# Altium footprint library env_sens_pcb.PcbLib: 24 footprints (part 1 of 2)
Each footprint in its own frame and in the unit in brackets; x right, y up, seen from the top. Pads: shape width x height; smd on the part's side, far side on the other; paste and mask are expansions set on the pad; w line width, h text height; cw(c..) or ccw(c..) is an arc to the next point about the centre after c.
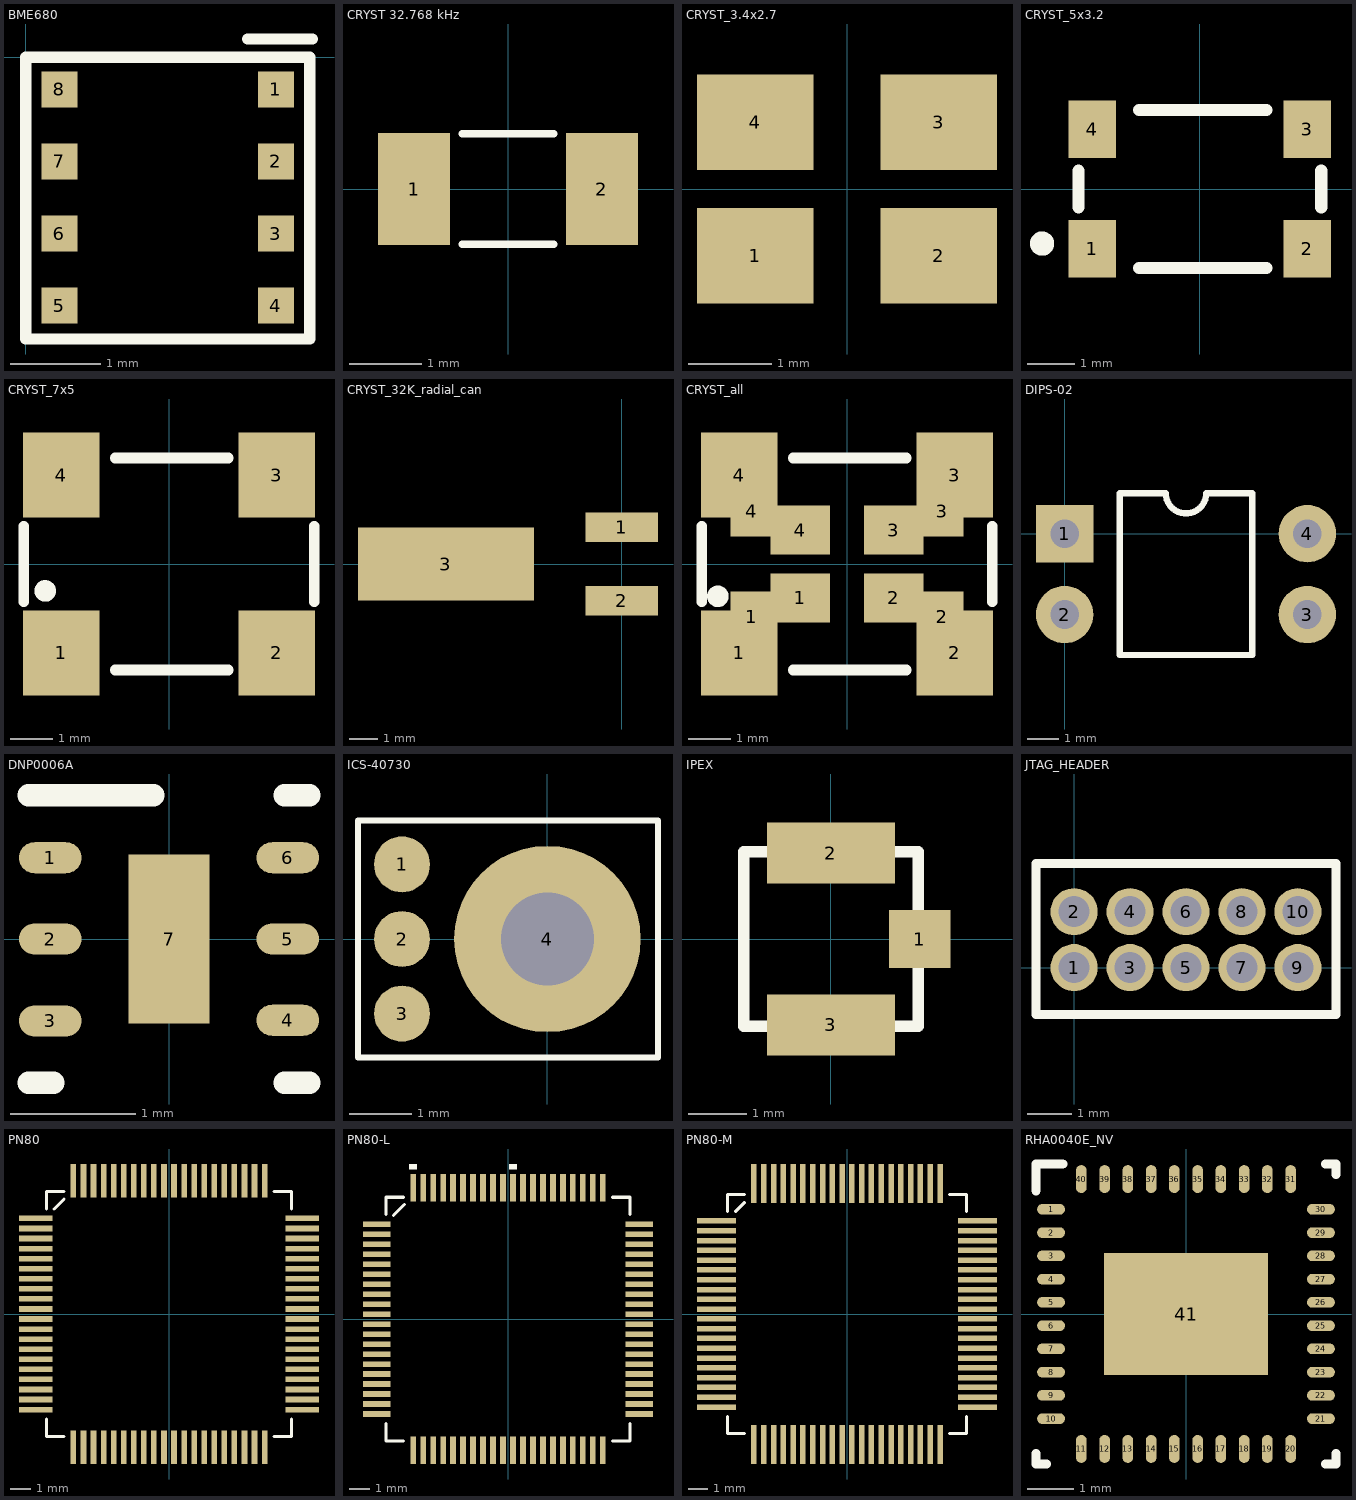
[diagram p0: the footprints below, top view; thin cyan lines are the x and y axes]

## BME680 [mm]
pads (8):
  rect 0.4x0.4 smd: 1(2.772,-0.355) 2(2.772,-1.155) 3(2.772,-1.955) 4(2.772,-2.755) 5(0.372,-2.755) 6(0.372,-1.955) 7(0.372,-1.155) 8(0.372,-0.355)
Top Overlay:
  lines w0.127: 2.46,0.203 3.175,0.203 ; 0,-3.124 0,0 3.15,0 3.15,-3.124 0,-3.124

## CRYST 32.768 kHz [mm]
pads (2):
  rect 1x1.55 smd: 1(-1.3,0) 2(1.3,0)
Top Overlay:
  lines w0.102: -0.635,-0.762 0.635,-0.762 ; -0.635,0.762 0.635,0.762

## CRYST_3.4x2.7 [mm]
pads (4):
  rect 1.4x1.15 smd: 1(-1.1,-0.8) 2(1.1,-0.8) 3(1.1,0.8) 4(-1.1,0.8)

## CRYST_5x3.2 [mm]
pads (4):
  rect 1x1.2 smd: 1(-2.25,-1.25) 2(2.25,-1.25) 3(2.25,1.25) 4(-2.25,1.25)
Top Overlay:
  circle w0.254: c-3.302,-1.143 r0.127
  lines w0.254: -2.54,-0.381 -2.54,0.381 ; -1.27,-1.651 1.397,-1.651 ; -1.27,1.651 1.397,1.651 ; 2.54,-0.381 2.54,0.381

## CRYST_7x5 [mm]
pads (4):
  rect 1.8x2 smd: 1(-2.54,-2.1) 2(2.54,-2.1) 3(2.54,2.1) 4(-2.54,2.1)
Top Overlay:
  circle w0.254: c-2.921,-0.635 r0.127
  lines w0.254: -3.429,-0.889 -3.429,0.889 ; -1.27,-2.5 1.397,-2.5 ; -1.27,2.5 1.397,2.5 ; 3.429,-0.889 3.429,0.889

## CRYST_32K_radial_can [mil]
pads (3):
  rect 99x40 smd: 1(0,50) 2(0,-50)
  rect 240x99 smd: 3(-240,0)

## CRYST_all [mm]
pads (12):
  rect 1.8x2 smd: 1(-2.54,-2.1) 2(2.54,-2.1) 3(2.54,2.1) 4(-2.54,2.1)
  rect 1x1.2 smd: 1(-2.25,-1.25) 2(2.25,-1.25) 3(2.25,1.25) 4(-2.25,1.25)
  rect 1.4x1.15 smd: 1(-1.1,-0.8) 2(1.1,-0.8) 3(1.1,0.8) 4(-1.1,0.8)
Top Overlay:
  circle w0.254: c-3.048,-0.762 r0.127
  lines w0.254: -3.429,-0.889 -3.429,0.889 ; -1.27,-2.5 1.397,-2.5 ; -1.27,2.5 1.397,2.5 ; 3.429,-0.889 3.429,0.889

## DIPS-02 [mm]
pads (4):
  rect 1.8x1.8 / inner rect 2.5x1.2 / far side rect 1.8x1.8 hole 0.9: 1(0,0)
  round 1.8 / inner oval 2.5x1.2 / far side round 1.8 hole 0.9: 2(0,-2.54) 3(7.62,-2.54) 4(7.62,0)
Top Overlay:
  lines w0.2: 1.735,-3.81 5.885,-3.81 5.885,1.27 4.445,1.27 cw(c3.81,1.27) 3.175,1.27 1.735,1.27 1.735,-3.81

## DNP0006A [mm]
pads (7):
  oval 0.5x0.25 smd paste-0.102 mask+0.051: 1(-0.95,0.65) 2(-0.95,0) 3(-0.95,-0.655) 4(0.95,-0.65) 5(0.95,0) 6(0.95,0.65)
  rect 0.65x1.35 smd paste-0.662 mask+0.051: 7(0,0)
Top Overlay:
  lines w0.178: -1.125,-1.15 -0.925,-1.15 ; -1.125,1.15 -0.125,1.15 ; 0.925,-1.15 1.125,-1.15 ; 0.925,1.15 1.125,1.15
Top Paste:
  region: -0.31,-0.625 0.31,-0.625 0.31,0.625 -0.31,0.625
3D body: height 0.25, standoff 0, extent 0,0 0.254,0.254

## ICS-40730 [mm]
pads (4):
  round 0.9 smd: 1(-2.34,1.2) 2(-2.34,0) 3(-2.34,-1.2)
  round 3 smd: 4(0,0)
via 0,0 diameter 1.5 hole 1.5
Top Overlay:
  lines w0.102: -3.048,-1.905 1.778,-1.905 1.778,1.905 -3.048,1.905 -3.048,-1.905
Top Solder:
  circle w0.5: c0,0 r1.3

## IPEX [mm]
pads (3):
  rect 1.05x1 smd: 1(1.525,0)
  rect 2.2x1.05 smd: 2(0,1.475) 3(0,-1.475)
Top Overlay:
  lines w0.2: -1.5,-1.5 -1.5,1.5 1.5,1.5 1.5,-1.5 -1.5,-1.5

## JTAG_HEADER [mm]
pads (10):
  round 1.067 hole 0.7: 1(0,0) 2(0,1.27) 3(1.27,0) 4(1.27,1.27) 5(2.54,0) 6(2.54,1.27) 7(3.81,0) 8(3.81,1.27) 9(5.08,0) 10(5.08,1.27)
Top Overlay:
  lines w0.2: -0.864,-1.067 5.944,-1.067 5.944,2.362 -0.864,2.362 -0.864,-1.067

## PN80 [mil]
pads (80):
  rect 66x11 smd: 1(-260.5,187.01) 2(-260.5,167.32) 3(-260.5,147.64) 4(-260.5,127.95) 5(-260.5,108.27) 6(-260.5,88.58) 7(-260.5,68.9) 8(-260.5,49.21) 9(-260.5,29.53) 10(-260.5,9.84) 11(-260.5,-9.84) 12(-260.5,-29.53) 13(-260.5,-49.21) 14(-260.5,-68.9) 15(-260.5,-88.58) 16(-260.5,-108.27) 17(-260.5,-127.95) 18(-260.5,-147.64) 19(-260.5,-167.32) 20(-260.5,-187.01) 41(260.5,-187.01) 42(260.5,-167.32) 43(260.5,-147.64) 44(260.5,-127.95) 45(260.5,-108.27) 46(260.5,-88.58) 47(260.5,-68.9) 48(260.5,-49.21) 49(260.5,-29.53) 50(260.5,-9.84) 51(260.5,9.84) 52(260.5,29.53) 53(260.5,49.21) 54(260.5,68.9) 55(260.5,88.58) 56(260.5,108.27) 57(260.5,127.95) 58(260.5,147.64) 59(260.5,167.32) 60(260.5,187.01)
  rect 11x66 smd: 21(-187.01,-260.5) 22(-167.32,-260.5) 23(-147.64,-260.5) 24(-127.95,-260.5) 25(-108.27,-260.5) 26(-88.58,-260.5) 27(-68.9,-260.5) 28(-49.21,-260.5) 29(-29.53,-260.5) 30(-9.84,-260.5) 31(9.84,-260.5) 32(29.53,-260.5) 33(49.21,-260.5) 34(68.9,-260.5) 35(88.58,-260.5) 36(108.27,-260.5) 37(127.95,-260.5) 38(147.64,-260.5) 39(167.32,-260.5) 40(187.01,-260.5) 61(187.01,260.5) 62(167.32,260.5) 63(147.64,260.5) 64(127.95,260.5) 65(108.27,260.5) 66(88.58,260.5) 67(68.9,260.5) 68(49.21,260.5) 69(29.53,260.5) 70(9.84,260.5) 71(-9.84,260.5) 72(-29.53,260.5) 73(-49.21,260.5) 74(-68.9,260.5) 75(-88.58,260.5) 76(-108.27,260.5) 77(-127.95,260.5) 78(-147.64,260.5) 79(-167.32,260.5) 80(-187.01,260.5)
Top Overlay:
  lines w6: -240,-205.61 -240,-240 -205.61,-240 ; -240,205.61 -240,240 -205.61,240 ; -224.7,205.3 -205.3,224.7 ; 205.61,-240 240,-240 240,-205.61 ; 205.61,240 240,240 240,205.61

## PN80-L [mil]
pads (80):
  rect 54x11 smd: 1(-258.5,187.01) 2(-258.5,167.32) 3(-258.5,147.64) 4(-258.5,127.95) 5(-258.5,108.27) 6(-258.5,88.58) 7(-258.5,68.9) 8(-258.5,49.21) 9(-258.5,29.53) 10(-258.5,9.84) 11(-258.5,-9.84) 12(-258.5,-29.53) 13(-258.5,-49.21) 14(-258.5,-68.9) 15(-258.5,-88.58) 16(-258.5,-108.27) 17(-258.5,-127.95) 18(-258.5,-147.64) 19(-258.5,-167.32) 20(-258.5,-187.01) 41(258.5,-187.01) 42(258.5,-167.32) 43(258.5,-147.64) 44(258.5,-127.95) 45(258.5,-108.27) 46(258.5,-88.58) 47(258.5,-68.9) 48(258.5,-49.21) 49(258.5,-29.53) 50(258.5,-9.84) 51(258.5,9.84) 52(258.5,29.53) 53(258.5,49.21) 54(258.5,68.9) 55(258.5,88.58) 56(258.5,108.27) 57(258.5,127.95) 58(258.5,147.64) 59(258.5,167.32) 60(258.5,187.01)
  rect 11x54 smd: 21(-187.01,-258.5) 22(-167.32,-258.5) 23(-147.64,-258.5) 24(-127.95,-258.5) 25(-108.27,-258.5) 26(-88.58,-258.5) 27(-68.9,-258.5) 28(-49.21,-258.5) 29(-29.53,-258.5) 30(-9.84,-258.5) 31(9.84,-258.5) 32(29.53,-258.5) 33(49.21,-258.5) 34(68.9,-258.5) 35(88.58,-258.5) 36(108.27,-258.5) 37(127.95,-258.5) 38(147.64,-258.5) 39(167.32,-258.5) 40(187.01,-258.5) 61(187.01,258.5) 62(167.32,258.5) 63(147.64,258.5) 64(127.95,258.5) 65(108.27,258.5) 66(88.58,258.5) 67(68.9,258.5) 68(49.21,258.5) 69(29.53,258.5) 70(9.84,258.5) 71(-9.84,258.5) 72(-29.53,258.5) 73(-49.21,258.5) 74(-68.9,258.5) 75(-88.58,258.5) 76(-108.27,258.5) 77(-127.95,258.5) 78(-147.64,258.5) 79(-167.32,258.5) 80(-187.01,258.5)
Top Overlay:
  region: 17.34,295.5 2.34,295.5 2.34,305.5 17.34,305.5
  region: -179.51,295.5 -194.51,295.5 -194.51,305.5 -179.51,305.5
  lines w6: -240,-205.61 -240,-240 -205.61,-240 ; -240,205.61 -240,240 -205.61,240 ; -225.73,204.27 -204.27,225.73 ; 205.61,-240 240,-240 240,-205.61 ; 205.61,240 240,240 240,205.61

## PN80-M [mil]
pads (80):
  rect 78x11 smd: 1(-262.5,187.01) 2(-262.5,167.32) 3(-262.5,147.64) 4(-262.5,127.95) 5(-262.5,108.27) 6(-262.5,88.58) 7(-262.5,68.9) 8(-262.5,49.21) 9(-262.5,29.53) 10(-262.5,9.84) 11(-262.5,-9.84) 12(-262.5,-29.53) 13(-262.5,-49.21) 14(-262.5,-68.9) 15(-262.5,-88.58) 16(-262.5,-108.27) 17(-262.5,-127.95) 18(-262.5,-147.64) 19(-262.5,-167.32) 20(-262.5,-187.01) 41(262.5,-187.01) 42(262.5,-167.32) 43(262.5,-147.64) 44(262.5,-127.95) 45(262.5,-108.27) 46(262.5,-88.58) 47(262.5,-68.9) 48(262.5,-49.21) 49(262.5,-29.53) 50(262.5,-9.84) 51(262.5,9.84) 52(262.5,29.53) 53(262.5,49.21) 54(262.5,68.9) 55(262.5,88.58) 56(262.5,108.27) 57(262.5,127.95) 58(262.5,147.64) 59(262.5,167.32) 60(262.5,187.01)
  rect 11x78 smd: 21(-187.01,-262.5) 22(-167.32,-262.5) 23(-147.64,-262.5) 24(-127.95,-262.5) 25(-108.27,-262.5) 26(-88.58,-262.5) 27(-68.9,-262.5) 28(-49.21,-262.5) 29(-29.53,-262.5) 30(-9.84,-262.5) 31(9.84,-262.5) 32(29.53,-262.5) 33(49.21,-262.5) 34(68.9,-262.5) 35(88.58,-262.5) 36(108.27,-262.5) 37(127.95,-262.5) 38(147.64,-262.5) 39(167.32,-262.5) 40(187.01,-262.5) 61(187.01,262.5) 62(167.32,262.5) 63(147.64,262.5) 64(127.95,262.5) 65(108.27,262.5) 66(88.58,262.5) 67(68.9,262.5) 68(49.21,262.5) 69(29.53,262.5) 70(9.84,262.5) 71(-9.84,262.5) 72(-29.53,262.5) 73(-49.21,262.5) 74(-68.9,262.5) 75(-88.58,262.5) 76(-108.27,262.5) 77(-127.95,262.5) 78(-147.64,262.5) 79(-167.32,262.5) 80(-187.01,262.5)
Top Overlay:
  lines w6: -240,-205.61 -240,-240 -205.61,-240 ; -240,205.61 -240,240 -205.61,240 ; -224.39,205.61 -205.61,224.39 ; 205.61,-240 240,-240 240,-205.61 ; 205.61,240 240,240 240,205.61

## RHA0040E_NV [mm]
pads (41):
  oval 0.6x0.23 smd paste+0 mask+0.076: 1(-2.9,2.25) 2(-2.9,1.75) 3(-2.9,1.25) 4(-2.9,0.75) 5(-2.9,0.25) 6(-2.9,-0.25) 7(-2.9,-0.75) 8(-2.9,-1.25) 9(-2.9,-1.75) 10(-2.9,-2.25) 21(2.9,-2.25) 22(2.9,-1.75) 23(2.9,-1.25) 24(2.9,-0.75) 25(2.9,-0.25) 26(2.9,0.25) 27(2.9,0.75) 28(2.9,1.25) 29(2.9,1.75) 30(2.9,2.25)
  oval 0.23x0.6 smd paste+0 mask+0.076: 11(-2.25,-2.9) 12(-1.75,-2.9) 13(-1.25,-2.9) 14(-0.75,-2.9) 15(-0.25,-2.9) 16(0.25,-2.9) 17(0.75,-2.9) 18(1.25,-2.9) 19(1.75,-2.9) 20(2.25,-2.9) 31(2.25,2.9) 32(1.75,2.9) 33(1.25,2.9) 34(0.75,2.9) 35(0.25,2.9) 36(-0.25,2.9) 37(-0.75,2.9) 38(-1.25,2.9) 39(-1.75,2.9) 40(-2.25,2.9)
  rect 3.52x2.62 smd paste-1.747 mask+0: 41(0,0)
Top Overlay:
  lines w0.2: -3.225,-3 -3.225,-3.225 -3,-3.225 ; -3.225,2.65 -3.225,3.225 -2.65,3.225 ; 3,-3.225 3.225,-3.225 3.225,-3 ; 3,3.225 3.225,3.225 3.225,3
Top Paste:
  region: 0.1,1.253 0.1,0.1 1.611,0.1 1.611,1.253
  region: -0.1,0.1 -0.1,1.253 -1.611,1.253 -1.611,0.1
  region: -0.1,-1.253 -0.1,-0.1 -1.611,-0.1 -1.611,-1.253
  region: 0.1,-0.1 0.1,-1.253 1.611,-1.253 1.611,-0.1
3D body: height 0.25, standoff 0, extent 0,0 0.254,0.254